# Altium footprint library DB.PcbLib: 16 footprints
Each footprint in its own frame and in the unit in brackets; x right, y up, seen from the top. Pads: shape width x height; smd on the part's side, far side on the other; paste and mask are expansions set on the pad; w line width, h text height; cw(c..) or ccw(c..) is an arc to the next point about the centre after c.
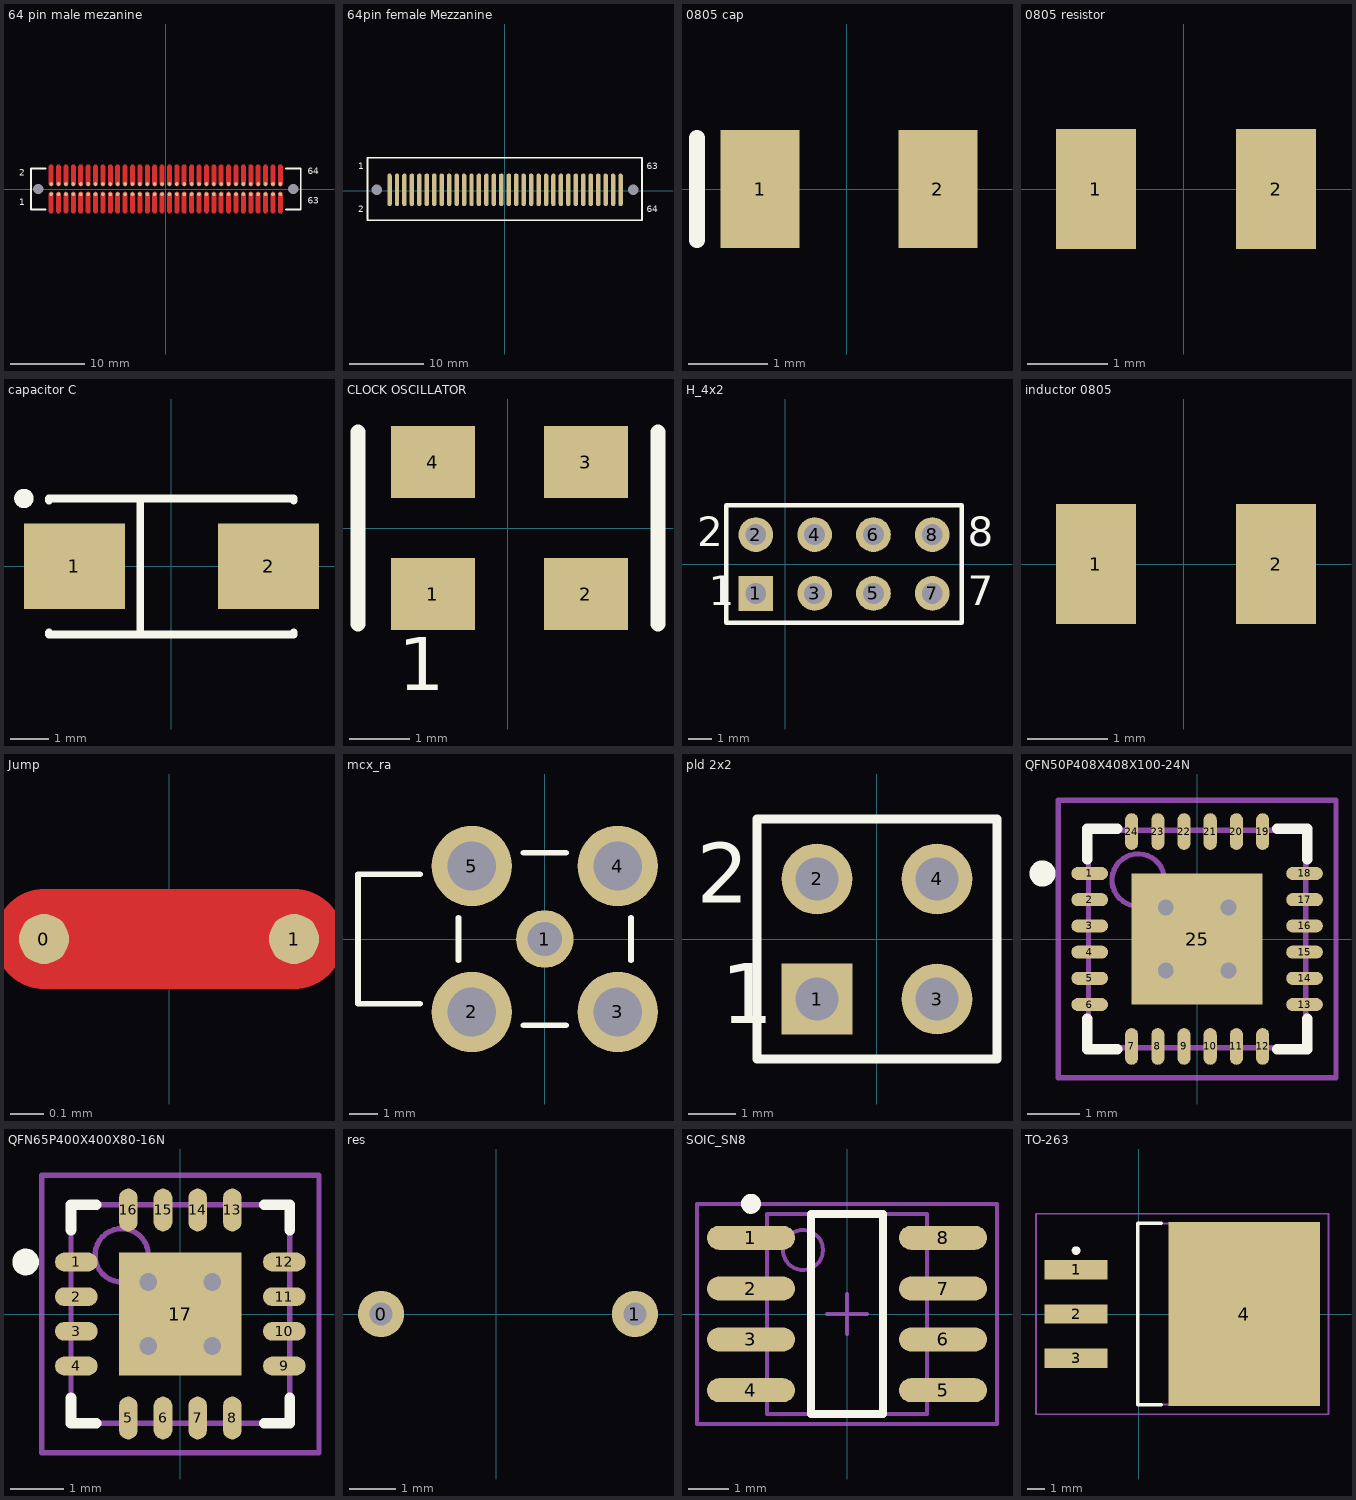
[diagram p0: the footprints below, top view; thin cyan lines are the x and y axes]

## 64 pin male mezanine [mm]
pads (66):
  round 0.5 smd: 1(-15.501,-0.7) 2(-15.501,0.679) 3(-14.5,-0.7) 4(-14.5,0.679) 5(-13.502,-0.7) 6(-13.502,0.679) 7(-12.501,-0.7) 8(-12.501,0.679) 9(-11.5,-0.7) 10(-11.5,0.679) 11(-10.502,-0.7) 12(-10.502,0.679) 13(-9.501,-0.7) 14(-9.501,0.679) 15(-8.501,-0.7) 16(-8.501,0.679) 17(-7.502,-0.7) 18(-7.502,0.679) 19(-6.502,-0.7) 20(-6.502,0.679) 21(-5.501,-0.7) 22(-5.501,0.679) 23(-4.5,-0.7) 24(-4.5,0.679) 25(-3.502,-0.7) 26(-3.502,0.679) 27(-2.501,-0.7) 28(-2.501,0.679) 29(-1.5,-0.7) 30(-1.5,0.679) 31(-0.502,-0.7) 32(-0.502,0.679) 33(0.499,-0.7) 34(0.499,0.679) 35(1.499,-0.7) 36(1.499,0.679) 37(2.498,-0.7) 38(2.498,0.679) 39(3.498,-0.7) 40(3.498,0.679) 41(4.499,-0.7) 42(4.499,0.679) 43(5.5,-0.7) 44(5.5,0.679) 45(6.498,-0.7) 46(6.498,0.679) 47(7.499,-0.7) 48(7.499,0.679) 49(8.5,-0.7) 50(8.5,0.679) 51(9.498,-0.7) 52(9.498,0.679) 53(10.499,-0.7) 54(10.499,0.679) 55(11.499,-0.7) 56(11.499,0.679) 57(12.498,-0.7) 58(12.498,0.679) 59(13.498,-0.7) 60(13.498,0.679) 61(14.499,-0.7) 62(14.499,0.679) 63(15.5,-0.7) 64(15.5,0.679)
  round 0 hole 1.4: 65(-17.25,0) 66(17.25,0)
Top Layer:
  region: -15.808,0.682 -15.808,0.622 -15.761,0.51 -15.675,0.424 -15.563,0.377 -15.442,0.377 -15.33,0.424 -15.244,0.51 -15.197,0.622 -15.197,0.682 -15.197,2.994 -15.197,3.054 -15.244,3.167 -15.33,3.253 -15.442,3.299 -15.563,3.299 -15.675,3.253 -15.761,3.167 -15.808,3.054 -15.808,2.994
  region: -14.807,0.682 -14.807,2.994 -14.807,3.054 -14.76,3.167 -14.675,3.253 -14.562,3.299 -14.441,3.299 -14.329,3.253 -14.243,3.167 -14.197,3.054 -14.197,2.994 -14.197,0.682 -14.197,0.622 -14.243,0.51 -14.329,0.424 -14.441,0.377 -14.562,0.377 -14.675,0.424 -14.76,0.51 -14.807,0.622
  region: -13.809,0.682 -13.809,0.622 -13.762,0.51 -13.676,0.424 -13.564,0.377 -13.443,0.377 -13.331,0.424 -13.245,0.51 -13.198,0.622 -13.198,0.682 -13.198,2.994 -13.198,3.054 -13.245,3.167 -13.331,3.253 -13.443,3.299 -13.564,3.299 -13.676,3.253 -13.762,3.167 -13.809,3.054 -13.809,2.994
  region: -12.808,0.682 -12.808,0.622 -12.761,0.51 -12.676,0.424 -12.563,0.377 -12.442,0.377 -12.33,0.424 -12.244,0.51 -12.198,0.622 -12.198,0.682 -12.198,2.994 -12.198,3.054 -12.244,3.167 -12.33,3.253 -12.442,3.299 -12.563,3.299 -12.676,3.253 -12.761,3.167 -12.808,3.054 -12.808,2.994
  region: -11.807,0.682 -11.807,0.622 -11.761,0.51 -11.675,0.424 -11.563,0.377 -11.441,0.377 -11.329,0.424 -11.243,0.51 -11.197,0.622 -11.197,0.682 -11.197,2.994 -11.197,3.054 -11.243,3.167 -11.329,3.253 -11.441,3.299 -11.563,3.299 -11.675,3.253 -11.761,3.167 -11.807,3.054 -11.807,2.994
  region: -10.809,0.682 -10.809,0.622 -10.763,0.51 -10.677,0.424 -10.564,0.377 -10.443,0.377 -10.331,0.424 -10.245,0.51 -10.199,0.622 -10.199,0.682 -10.199,2.994 -10.199,3.054 -10.245,3.167 -10.331,3.253 -10.443,3.299 -10.564,3.299 -10.677,3.253 -10.763,3.167 -10.809,3.054 -10.809,2.994
  region: -9.808,0.682 -9.808,0.622 -9.762,0.51 -9.676,0.424 -9.564,0.377 -9.442,0.377 -9.33,0.424 -9.244,0.51 -9.198,0.622 -9.198,0.682 -9.198,2.994 -9.198,3.054 -9.244,3.167 -9.33,3.253 -9.442,3.299 -9.564,3.299 -9.676,3.253 -9.762,3.167 -9.808,3.054 -9.808,2.994
  region: -8.807,0.682 -8.807,0.622 -8.761,0.51 -8.675,0.424 -8.563,0.377 -8.442,0.377 -8.329,0.424 -8.244,0.51 -8.197,0.622 -8.197,0.682 -8.197,2.994 -8.197,3.054 -8.244,3.167 -8.329,3.253 -8.442,3.299 -8.563,3.299 -8.675,3.253 -8.761,3.167 -8.807,3.054 -8.807,2.994
  region: -7.809,0.682 -7.809,0.622 -7.763,0.51 -7.677,0.424 -7.565,0.377 -7.443,0.377 -7.331,0.424 -7.245,0.51 -7.199,0.622 -7.199,0.682 -7.199,2.994 -7.199,3.054 -7.245,3.167 -7.331,3.253 -7.443,3.299 -7.565,3.299 -7.677,3.253 -7.763,3.167 -7.809,3.054 -7.809,2.994
  region: -6.808,0.682 -6.808,0.622 -6.762,0.51 -6.676,0.424 -6.564,0.377 -6.443,0.377 -6.33,0.424 -6.245,0.51 -6.198,0.622 -6.198,0.682 -6.198,2.994 -6.198,3.054 -6.245,3.167 -6.33,3.253 -6.443,3.299 -6.564,3.299 -6.676,3.253 -6.762,3.167 -6.808,3.054 -6.808,2.994
  region: -5.808,0.682 -5.808,0.622 -5.761,0.51 -5.675,0.424 -5.563,0.377 -5.442,0.377 -5.33,0.424 -5.244,0.51 -5.197,0.622 -5.197,0.682 -5.197,2.994 -5.197,3.054 -5.244,3.167 -5.33,3.253 -5.442,3.299 -5.563,3.299 -5.675,3.253 -5.761,3.167 -5.808,3.054 -5.808,2.994
  region: 5.193,0.682 5.193,0.622 5.239,0.51 5.325,0.424 5.438,0.377 5.559,0.377 5.671,0.424 5.757,0.51 5.803,0.622 5.803,0.682 5.803,2.994 5.803,3.054 5.757,3.167 5.671,3.253 5.559,3.299 5.438,3.299 5.325,3.253 5.239,3.167 5.193,3.054 5.193,2.994
  region: 4.192,0.682 4.192,0.622 4.239,0.51 4.325,0.424 4.437,0.377 4.558,0.377 4.67,0.424 4.756,0.51 4.803,0.622 4.803,0.682 4.803,2.994 4.803,3.054 4.756,3.167 4.67,3.253 4.558,3.299 4.437,3.299 4.325,3.253 4.239,3.167 4.192,3.054 4.192,2.994
  region: 3.192,0.682 3.192,0.622 3.238,0.51 3.324,0.424 3.436,0.377 3.557,0.377 3.67,0.424 3.755,0.51 3.802,0.622 3.802,0.682 3.802,2.994 3.802,3.054 3.755,3.167 3.67,3.253 3.557,3.299 3.436,3.299 3.324,3.253 3.238,3.167 3.192,3.054 3.192,2.994
  region: 2.193,0.682 2.193,0.622 2.24,0.51 2.326,0.424 2.438,0.377 2.559,0.377 2.671,0.424 2.757,0.51 2.804,0.622 2.804,0.682 2.804,2.994 2.804,3.054 2.757,3.167 2.671,3.253 2.559,3.299 2.438,3.299 2.326,3.253 2.24,3.167 2.193,3.054 2.193,2.994
  region: 1.193,0.682 1.193,0.622 1.239,0.51 1.325,0.424 1.437,0.377 1.558,0.377 1.671,0.424 1.756,0.51 1.803,0.622 1.803,0.682 1.803,2.994 1.803,3.054 1.756,3.167 1.671,3.253 1.558,3.299 1.437,3.299 1.325,3.253 1.239,3.167 1.193,3.054 1.193,2.994
  region: 0.192,0.682 0.192,0.622 0.238,0.51 0.324,0.424 0.436,0.377 0.558,0.377 0.67,0.424 0.756,0.51 0.802,0.622 0.802,0.682 0.802,2.994 0.802,3.054 0.756,3.167 0.67,3.253 0.558,3.299 0.436,3.299 0.324,3.253 0.238,3.167 0.192,3.054 0.192,2.994
  region: -0.806,0.682 -0.806,0.622 -0.76,0.51 -0.674,0.424 -0.562,0.377 -0.441,0.377 -0.328,0.424 -0.243,0.51 -0.196,0.622 -0.196,0.682 -0.196,2.994 -0.196,3.054 -0.243,3.167 -0.328,3.253 -0.441,3.299 -0.562,3.299 -0.674,3.253 -0.76,3.167 -0.806,3.054 -0.806,2.994
  region: -1.807,0.682 -1.807,0.622 -1.761,0.51 -1.675,0.424 -1.563,0.377 -1.441,0.377 -1.329,0.424 -1.243,0.51 -1.197,0.622 -1.197,0.682 -1.197,2.994 -1.197,3.054 -1.243,3.167 -1.329,3.253 -1.441,3.299 -1.563,3.299 -1.675,3.253 -1.761,3.167 -1.807,3.054 -1.807,2.994
  region: -2.808,0.682 -2.808,0.622 -2.762,0.51 -2.676,0.424 -2.563,0.377 -2.442,0.377 -2.33,0.424 -2.244,0.51 -2.198,0.622 -2.198,0.682 -2.198,2.994 -2.198,3.054 -2.244,3.167 -2.33,3.253 -2.442,3.299 -2.563,3.299 -2.676,3.253 -2.762,3.167 -2.808,3.054 -2.808,2.994
  region: -3.806,0.682 -3.806,2.994 -3.806,3.054 -3.76,3.167 -3.674,3.253 -3.562,3.299 -3.44,3.299 -3.328,3.253 -3.242,3.167 -3.196,3.054 -3.196,2.994 -3.196,0.682 -3.196,0.622 -3.242,0.51 -3.328,0.424 -3.44,0.377 -3.562,0.377 -3.674,0.424 -3.76,0.51 -3.806,0.622
  region: -4.807,0.682 -4.807,0.622 -4.76,0.51 -4.675,0.424 -4.562,0.377 -4.441,0.377 -4.329,0.424 -4.243,0.51 -4.197,0.622 -4.197,0.682 -4.197,2.994 -4.197,3.054 -4.243,3.167 -4.329,3.253 -4.441,3.299 -4.562,3.299 -4.675,3.253 -4.76,3.167 -4.807,3.054 -4.807,2.994
  region: 15.19,0.682 15.19,0.622 15.237,0.51 15.323,0.424 15.435,0.377 15.556,0.377 15.669,0.424 15.754,0.51 15.801,0.622 15.801,0.682 15.801,2.994 15.801,3.054 15.754,3.167 15.669,3.253 15.556,3.299 15.435,3.299 15.323,3.253 15.237,3.167 15.19,3.054 15.19,2.994
  region: 14.19,0.682 14.19,0.622 14.236,0.51 14.322,0.424 14.434,0.377 14.556,0.377 14.668,0.424 14.754,0.51 14.8,0.622 14.8,0.682 14.8,2.994 14.8,3.054 14.754,3.167 14.668,3.253 14.556,3.299 14.434,3.299 14.322,3.253 14.236,3.167 14.19,3.054 14.19,2.994
  region: 13.191,0.682 13.191,0.622 13.238,0.51 13.324,0.424 13.436,0.377 13.557,0.377 13.67,0.424 13.755,0.51 13.802,0.622 13.802,0.682 13.802,2.994 13.802,3.054 13.755,3.167 13.67,3.253 13.557,3.299 13.436,3.299 13.324,3.253 13.238,3.167 13.191,3.054 13.191,2.994
  region: 12.191,0.682 12.191,0.622 12.237,0.51 12.323,0.424 12.435,0.377 12.557,0.377 12.669,0.424 12.755,0.51 12.801,0.622 12.801,0.682 12.801,2.994 12.801,3.054 12.755,3.167 12.669,3.253 12.557,3.299 12.435,3.299 12.323,3.253 12.237,3.167 12.191,3.054 12.191,2.994
  region: 11.19,0.682 11.19,0.622 11.236,0.51 11.322,0.424 11.434,0.377 11.556,0.377 11.668,0.424 11.754,0.51 11.8,0.622 11.8,0.682 11.8,2.994 11.8,3.054 11.754,3.167 11.668,3.253 11.556,3.299 11.434,3.299 11.322,3.253 11.236,3.167 11.19,3.054 11.19,2.994
  region: 10.192,0.682 10.192,0.622 10.238,0.51 10.324,0.424 10.436,0.377 10.558,0.377 10.67,0.424 10.756,0.51 10.802,0.622 10.802,0.682 10.802,2.994 10.802,3.054 10.756,3.167 10.67,3.253 10.558,3.299 10.436,3.299 10.324,3.253 10.238,3.167 10.192,3.054 10.192,2.994
  region: 9.191,0.682 9.191,0.622 9.237,0.51 9.323,0.424 9.435,0.377 9.557,0.377 9.669,0.424 9.755,0.51 9.801,0.622 9.801,0.682 9.801,2.994 9.801,3.054 9.755,3.167 9.669,3.253 9.557,3.299 9.435,3.299 9.323,3.253 9.237,3.167 9.191,3.054 9.191,2.994
  region: 8.19,0.682 8.19,0.622 8.237,0.51 8.323,0.424 8.435,0.377 8.556,0.377 8.668,0.424 8.754,0.51 8.801,0.622 8.801,0.682 8.801,2.994 8.801,3.054 8.754,3.167 8.668,3.253 8.556,3.299 8.435,3.299 8.323,3.253 8.237,3.167 8.19,3.054 8.19,2.994
  region: 7.192,0.682 7.192,2.994 7.192,3.054 7.238,3.167 7.324,3.253 7.436,3.299 7.558,3.299 7.67,3.253 7.756,3.167 7.802,3.054 7.802,2.994 7.802,0.682 7.802,0.622 7.756,0.51 7.67,0.424 7.558,0.377 7.436,0.377 7.324,0.424 7.238,0.51 7.192,0.622
  region: 6.191,0.682 6.191,0.622 6.238,0.51 6.324,0.424 6.436,0.377 6.557,0.377 6.669,0.424 6.755,0.51 6.802,0.622 6.802,0.682 6.802,2.994 6.802,3.054 6.755,3.167 6.669,3.253 6.557,3.299 6.436,3.299 6.324,3.253 6.238,3.167 6.191,3.054 6.191,2.994
  region: -15.808,-0.682 -15.808,-0.622 -15.761,-0.51 -15.675,-0.424 -15.563,-0.377 -15.442,-0.377 -15.33,-0.424 -15.244,-0.51 -15.197,-0.622 -15.197,-0.682 -15.197,-2.994 -15.197,-3.054 -15.244,-3.167 -15.33,-3.253 -15.442,-3.299 -15.563,-3.299 -15.675,-3.253 -15.761,-3.167 -15.808,-3.054 -15.808,-2.994
  region: -14.807,-0.682 -14.807,-2.994 -14.807,-3.054 -14.76,-3.167 -14.675,-3.253 -14.562,-3.299 -14.441,-3.299 -14.329,-3.253 -14.243,-3.167 -14.197,-3.054 -14.197,-2.994 -14.197,-0.682 -14.197,-0.622 -14.243,-0.51 -14.329,-0.424 -14.441,-0.377 -14.562,-0.377 -14.675,-0.424 -14.76,-0.51 -14.807,-0.622
  region: -13.809,-0.682 -13.809,-0.622 -13.762,-0.51 -13.676,-0.424 -13.564,-0.377 -13.443,-0.377 -13.331,-0.424 -13.245,-0.51 -13.198,-0.622 -13.198,-0.682 -13.198,-2.994 -13.198,-3.054 -13.245,-3.167 -13.331,-3.253 -13.443,-3.299 -13.564,-3.299 -13.676,-3.253 -13.762,-3.167 -13.809,-3.054 -13.809,-2.994
  region: -12.808,-0.682 -12.808,-0.622 -12.761,-0.51 -12.676,-0.424 -12.563,-0.377 -12.442,-0.377 -12.33,-0.424 -12.244,-0.51 -12.198,-0.622 -12.198,-0.682 -12.198,-2.994 -12.198,-3.054 -12.244,-3.167 -12.33,-3.253 -12.442,-3.299 -12.563,-3.299 -12.676,-3.253 -12.761,-3.167 -12.808,-3.054 -12.808,-2.994
  region: -11.807,-0.682 -11.807,-0.622 -11.761,-0.51 -11.675,-0.424 -11.563,-0.377 -11.441,-0.377 -11.329,-0.424 -11.243,-0.51 -11.197,-0.622 -11.197,-0.682 -11.197,-2.994 -11.197,-3.054 -11.243,-3.167 -11.329,-3.253 -11.441,-3.299 -11.563,-3.299 -11.675,-3.253 -11.761,-3.167 -11.807,-3.054 -11.807,-2.994
  region: -10.809,-0.682 -10.809,-0.622 -10.763,-0.51 -10.677,-0.424 -10.564,-0.377 -10.443,-0.377 -10.331,-0.424 -10.245,-0.51 -10.199,-0.622 -10.199,-0.682 -10.199,-2.994 -10.199,-3.054 -10.245,-3.167 -10.331,-3.253 -10.443,-3.299 -10.564,-3.299 -10.677,-3.253 -10.763,-3.167 -10.809,-3.054 -10.809,-2.994
  region: -9.808,-0.682 -9.808,-0.622 -9.762,-0.51 -9.676,-0.424 -9.564,-0.377 -9.442,-0.377 -9.33,-0.424 -9.244,-0.51 -9.198,-0.622 -9.198,-0.682 -9.198,-2.994 -9.198,-3.054 -9.244,-3.167 -9.33,-3.253 -9.442,-3.299 -9.564,-3.299 -9.676,-3.253 -9.762,-3.167 -9.808,-3.054 -9.808,-2.994
  region: -8.807,-0.682 -8.807,-0.622 -8.761,-0.51 -8.675,-0.424 -8.563,-0.377 -8.442,-0.377 -8.329,-0.424 -8.244,-0.51 -8.197,-0.622 -8.197,-0.682 -8.197,-2.994 -8.197,-3.054 -8.244,-3.167 -8.329,-3.253 -8.442,-3.299 -8.563,-3.299 -8.675,-3.253 -8.761,-3.167 -8.807,-3.054 -8.807,-2.994
  region: -7.809,-0.682 -7.809,-0.622 -7.763,-0.51 -7.677,-0.424 -7.565,-0.377 -7.443,-0.377 -7.331,-0.424 -7.245,-0.51 -7.199,-0.622 -7.199,-0.682 -7.199,-2.994 -7.199,-3.054 -7.245,-3.167 -7.331,-3.253 -7.443,-3.299 -7.565,-3.299 -7.677,-3.253 -7.763,-3.167 -7.809,-3.054 -7.809,-2.994
  region: -6.808,-0.682 -6.808,-0.622 -6.762,-0.51 -6.676,-0.424 -6.564,-0.377 -6.443,-0.377 -6.33,-0.424 -6.245,-0.51 -6.198,-0.622 -6.198,-0.682 -6.198,-2.994 -6.198,-3.054 -6.245,-3.167 -6.33,-3.253 -6.443,-3.299 -6.564,-3.299 -6.676,-3.253 -6.762,-3.167 -6.808,-3.054 -6.808,-2.994
  region: -5.808,-0.682 -5.808,-0.622 -5.761,-0.51 -5.675,-0.424 -5.563,-0.377 -5.442,-0.377 -5.33,-0.424 -5.244,-0.51 -5.197,-0.622 -5.197,-0.682 -5.197,-2.994 -5.197,-3.054 -5.244,-3.167 -5.33,-3.253 -5.442,-3.299 -5.563,-3.299 -5.675,-3.253 -5.761,-3.167 -5.808,-3.054 -5.808,-2.994
  region: 5.193,-0.682 5.193,-0.622 5.239,-0.51 5.325,-0.424 5.438,-0.377 5.559,-0.377 5.671,-0.424 5.757,-0.51 5.803,-0.622 5.803,-0.682 5.803,-2.994 5.803,-3.054 5.757,-3.167 5.671,-3.253 5.559,-3.299 5.438,-3.299 5.325,-3.253 5.239,-3.167 5.193,-3.054 5.193,-2.994
  region: 4.192,-0.682 4.192,-0.622 4.239,-0.51 4.325,-0.424 4.437,-0.377 4.558,-0.377 4.67,-0.424 4.756,-0.51 4.803,-0.622 4.803,-0.682 4.803,-2.994 4.803,-3.054 4.756,-3.167 4.67,-3.253 4.558,-3.299 4.437,-3.299 4.325,-3.253 4.239,-3.167 4.192,-3.054 4.192,-2.994
  region: 3.192,-0.682 3.192,-0.622 3.238,-0.51 3.324,-0.424 3.436,-0.377 3.557,-0.377 3.67,-0.424 3.755,-0.51 3.802,-0.622 3.802,-0.682 3.802,-2.994 3.802,-3.054 3.755,-3.167 3.67,-3.253 3.557,-3.299 3.436,-3.299 3.324,-3.253 3.238,-3.167 3.192,-3.054 3.192,-2.994
  region: 2.193,-0.682 2.193,-0.622 2.24,-0.51 2.326,-0.424 2.438,-0.377 2.559,-0.377 2.671,-0.424 2.757,-0.51 2.804,-0.622 2.804,-0.682 2.804,-2.994 2.804,-3.054 2.757,-3.167 2.671,-3.253 2.559,-3.299 2.438,-3.299 2.326,-3.253 2.24,-3.167 2.193,-3.054 2.193,-2.994
  region: 1.193,-0.682 1.193,-0.622 1.239,-0.51 1.325,-0.424 1.437,-0.377 1.558,-0.377 1.671,-0.424 1.756,-0.51 1.803,-0.622 1.803,-0.682 1.803,-2.994 1.803,-3.054 1.756,-3.167 1.671,-3.253 1.558,-3.299 1.437,-3.299 1.325,-3.253 1.239,-3.167 1.193,-3.054 1.193,-2.994
  region: 0.192,-0.682 0.192,-0.622 0.238,-0.51 0.324,-0.424 0.436,-0.377 0.558,-0.377 0.67,-0.424 0.756,-0.51 0.802,-0.622 0.802,-0.682 0.802,-2.994 0.802,-3.054 0.756,-3.167 0.67,-3.253 0.558,-3.299 0.436,-3.299 0.324,-3.253 0.238,-3.167 0.192,-3.054 0.192,-2.994
  region: -0.806,-0.682 -0.806,-0.622 -0.76,-0.51 -0.674,-0.424 -0.562,-0.377 -0.441,-0.377 -0.328,-0.424 -0.243,-0.51 -0.196,-0.622 -0.196,-0.682 -0.196,-2.994 -0.196,-3.054 -0.243,-3.167 -0.328,-3.253 -0.441,-3.299 -0.562,-3.299 -0.674,-3.253 -0.76,-3.167 -0.806,-3.054 -0.806,-2.994
  region: -1.807,-0.682 -1.807,-0.622 -1.761,-0.51 -1.675,-0.424 -1.563,-0.377 -1.441,-0.377 -1.329,-0.424 -1.243,-0.51 -1.197,-0.622 -1.197,-0.682 -1.197,-2.994 -1.197,-3.054 -1.243,-3.167 -1.329,-3.253 -1.441,-3.299 -1.563,-3.299 -1.675,-3.253 -1.761,-3.167 -1.807,-3.054 -1.807,-2.994
  region: -2.808,-0.682 -2.808,-0.622 -2.762,-0.51 -2.676,-0.424 -2.563,-0.377 -2.442,-0.377 -2.33,-0.424 -2.244,-0.51 -2.198,-0.622 -2.198,-0.682 -2.198,-2.994 -2.198,-3.054 -2.244,-3.167 -2.33,-3.253 -2.442,-3.299 -2.563,-3.299 -2.676,-3.253 -2.762,-3.167 -2.808,-3.054 -2.808,-2.994
  region: -3.806,-0.682 -3.806,-2.994 -3.806,-3.054 -3.76,-3.167 -3.674,-3.253 -3.562,-3.299 -3.44,-3.299 -3.328,-3.253 -3.242,-3.167 -3.196,-3.054 -3.196,-2.994 -3.196,-0.682 -3.196,-0.622 -3.242,-0.51 -3.328,-0.424 -3.44,-0.377 -3.562,-0.377 -3.674,-0.424 -3.76,-0.51 -3.806,-0.622
  region: -4.807,-0.682 -4.807,-0.622 -4.76,-0.51 -4.675,-0.424 -4.562,-0.377 -4.441,-0.377 -4.329,-0.424 -4.243,-0.51 -4.197,-0.622 -4.197,-0.682 -4.197,-2.994 -4.197,-3.054 -4.243,-3.167 -4.329,-3.253 -4.441,-3.299 -4.562,-3.299 -4.675,-3.253 -4.76,-3.167 -4.807,-3.054 -4.807,-2.994
  region: 15.19,-0.682 15.19,-0.622 15.237,-0.51 15.323,-0.424 15.435,-0.377 15.556,-0.377 15.669,-0.424 15.754,-0.51 15.801,-0.622 15.801,-0.682 15.801,-2.994 15.801,-3.054 15.754,-3.167 15.669,-3.253 15.556,-3.299 15.435,-3.299 15.323,-3.253 15.237,-3.167 15.19,-3.054 15.19,-2.994
  region: 14.19,-0.682 14.19,-0.622 14.236,-0.51 14.322,-0.424 14.434,-0.377 14.556,-0.377 14.668,-0.424 14.754,-0.51 14.8,-0.622 14.8,-0.682 14.8,-2.994 14.8,-3.054 14.754,-3.167 14.668,-3.253 14.556,-3.299 14.434,-3.299 14.322,-3.253 14.236,-3.167 14.19,-3.054 14.19,-2.994
  region: 13.191,-0.682 13.191,-0.622 13.238,-0.51 13.324,-0.424 13.436,-0.377 13.557,-0.377 13.67,-0.424 13.755,-0.51 13.802,-0.622 13.802,-0.682 13.802,-2.994 13.802,-3.054 13.755,-3.167 13.67,-3.253 13.557,-3.299 13.436,-3.299 13.324,-3.253 13.238,-3.167 13.191,-3.054 13.191,-2.994
  region: 12.191,-0.682 12.191,-0.622 12.237,-0.51 12.323,-0.424 12.435,-0.377 12.557,-0.377 12.669,-0.424 12.755,-0.51 12.801,-0.622 12.801,-0.682 12.801,-2.994 12.801,-3.054 12.755,-3.167 12.669,-3.253 12.557,-3.299 12.435,-3.299 12.323,-3.253 12.237,-3.167 12.191,-3.054 12.191,-2.994
  region: 11.19,-0.682 11.19,-0.622 11.236,-0.51 11.322,-0.424 11.434,-0.377 11.556,-0.377 11.668,-0.424 11.754,-0.51 11.8,-0.622 11.8,-0.682 11.8,-2.994 11.8,-3.054 11.754,-3.167 11.668,-3.253 11.556,-3.299 11.434,-3.299 11.322,-3.253 11.236,-3.167 11.19,-3.054 11.19,-2.994
  region: 10.192,-0.682 10.192,-0.622 10.238,-0.51 10.324,-0.424 10.436,-0.377 10.558,-0.377 10.67,-0.424 10.756,-0.51 10.802,-0.622 10.802,-0.682 10.802,-2.994 10.802,-3.054 10.756,-3.167 10.67,-3.253 10.558,-3.299 10.436,-3.299 10.324,-3.253 10.238,-3.167 10.192,-3.054 10.192,-2.994
  region: 9.191,-0.682 9.191,-0.622 9.237,-0.51 9.323,-0.424 9.435,-0.377 9.557,-0.377 9.669,-0.424 9.755,-0.51 9.801,-0.622 9.801,-0.682 9.801,-2.994 9.801,-3.054 9.755,-3.167 9.669,-3.253 9.557,-3.299 9.435,-3.299 9.323,-3.253 9.237,-3.167 9.191,-3.054 9.191,-2.994
  region: 8.19,-0.682 8.19,-0.622 8.237,-0.51 8.323,-0.424 8.435,-0.377 8.556,-0.377 8.668,-0.424 8.754,-0.51 8.801,-0.622 8.801,-0.682 8.801,-2.994 8.801,-3.054 8.754,-3.167 8.668,-3.253 8.556,-3.299 8.435,-3.299 8.323,-3.253 8.237,-3.167 8.19,-3.054 8.19,-2.994
  region: 7.192,-0.682 7.192,-2.994 7.192,-3.054 7.238,-3.167 7.324,-3.253 7.436,-3.299 7.558,-3.299 7.67,-3.253 7.756,-3.167 7.802,-3.054 7.802,-2.994 7.802,-0.682 7.802,-0.622 7.756,-0.51 7.67,-0.424 7.558,-0.377 7.436,-0.377 7.324,-0.424 7.238,-0.51 7.192,-0.622
  region: 6.191,-0.682 6.191,-0.622 6.238,-0.51 6.324,-0.424 6.436,-0.377 6.557,-0.377 6.669,-0.424 6.755,-0.51 6.802,-0.622 6.802,-0.682 6.802,-2.994 6.802,-3.054 6.755,-3.167 6.669,-3.253 6.557,-3.299 6.436,-3.299 6.324,-3.253 6.238,-3.167 6.191,-3.054 6.191,-2.994
Top Overlay:
  lines w0.254: -16.25,-2.75 -18.25,-2.75 -18.25,2.75 -16.25,2.75 ; 16.25,-2.75 18.25,-2.75 18.25,2.75 16.25,2.75
  text "64" at 19.2,1.675 h1.52
  text "63" at 19.2,-2.325 h1.52
  text "2" at -19.85,1.45 h1.52
  text "1" at -19.85,-2.55 h1.52

## 64pin female Mezzanine [mm]
pads (66):
  round 0 hole 1.4: 0(-17.15,0.15) 0(17.225,0.15)
  oval 0.6x3 smd: 1(-15.45,0.825) 3(-14.452,0.832) 5(-13.454,0.832) 7(-12.453,0.832) 9(-11.452,0.832) 11(-10.454,0.832) 13(-9.453,0.832) 15(-8.452,0.832) 17(-7.454,0.832) 19(-6.453,0.832) 21(-5.453,0.832) 23(-4.452,0.832) 25(-3.454,0.832) 27(-2.453,0.832) 29(-1.452,0.832) 31(-0.454,0.832) 33(0.547,0.832) 35(1.548,0.832) 37(2.546,0.832) 39(3.547,0.832) 41(4.547,0.832) 43(5.548,0.832) 45(6.546,0.832) 47(7.547,0.832) 49(8.548,0.832) 51(9.546,0.832) 53(10.547,0.832) 55(11.548,0.832) 57(12.546,0.832) 59(13.547,0.832) 61(14.547,0.832) 63(15.548,0.832)
  oval 0.6x3 smd paste+0: 2(-15.453,-0.547) 4(-14.452,-0.547) 6(-13.454,-0.547) 8(-12.453,-0.547) 10(-11.452,-0.547) 12(-10.454,-0.547) 14(-9.453,-0.547) 16(-8.452,-0.547) 18(-7.454,-0.547) 20(-6.453,-0.547) 22(-5.453,-0.547) 24(-4.452,-0.547) 26(-3.454,-0.547) 28(-2.453,-0.547) 30(-1.452,-0.547) 32(-0.454,-0.547) 34(0.547,-0.547) 36(1.548,-0.547) 38(2.546,-0.547) 40(3.547,-0.547) 42(4.547,-0.547) 44(5.548,-0.547) 46(6.546,-0.547) 48(7.547,-0.547) 50(8.548,-0.547) 52(9.546,-0.547) 54(10.547,-0.547) 56(11.548,-0.547) 58(12.546,-0.547) 60(13.547,-0.547) 62(14.547,-0.547) 64(15.548,-0.547)
Top Overlay:
  lines w0.254: -18.415,-3.937 18.415,-3.937 18.415,4.445 -18.415,4.445 -18.415,-3.937
  text "63" at 19.05,2.54 h1.52
  text "64" at 19.05,-3.175 h1.52
  text "1" at -19.685,2.54 h1.52
  text "2" at -19.685,-3.175 h1.52
3D body "714390164.stp": height 5.31, standoff -0.79, extent -17.899,-2.872 18.001,3.228

## 0805 cap [mm]
pads (2):
  rect 1x1.5 smd: 1(-1.1,0) 2(1.15,0)
Top Overlay:
  lines w0.2: -1.9,-0.65 -1.9,0.65
3D body "User_Library-0805_SMD_Capacitor.step": height 0.78, standoff 0, extent -1.025,-0.65 0.975,0.6

## 0805 resistor [mm]
pads (2):
  rect 1x1.5 smd: 1(-1.1,0) 2(1.15,0)
3D body "User_Library-0805_SMD_Resistor.step": height 0.78, standoff 0, extent -0.975,-0.625 1.025,0.625

## capacitor C [mm]
pads (2):
  rect 2.6x2.2 smd: 1(-2.5,0) 2(2.5,0)
Top Overlay:
  circle w0.25: c-3.8,1.75 r0.125
  lines w0.2: -3.15,-1.7 -3.15,-1.75 3.15,-1.75 3.15,-1.7 ; -3.15,1.7 -3.15,1.75 3.15,1.75 3.15,1.7 ; -0.8,-1.75 -0.8,1.75
3D body "User_Library-Tantalum_Size_C.step": height 2.6, standoff 0, extent -2.9,-1.55 2.9,1.65

## CLOCK OSCILLATOR [mm]
pads (4):
  rect 1.4x1.2 smd: 1(-1.25,-1.1) 2(1.3,-1.1) 3(1.3,1.1) 4(-1.25,1.1)
Top Overlay:
  lines w0.254: -2.5,-1.6 -2.5,1.6 ; 2.5,-1.6 2.5,1.6
  text "1" at -1.825,-3 h1.52
3D body "User_Library-ASFL1.step": height 1.33, standoff 0.01, extent -2.475,-1.575 2.525,1.625

## H_4x2 [mm]
pads (8):
  rect 1.5x1.5 hole 0.9: 1(-1.26,-1.27)
  round 1.5 hole 0.9: 2(-1.26,1.27) 3(1.28,-1.27) 4(1.28,1.27) 5(3.82,-1.27) 6(3.82,1.27) 7(6.36,-1.27) 8(6.36,1.27)
Top Overlay:
  lines w0.2: -2.53,-2.54 -2.53,2.54 7.63,2.54 7.63,-2.54 -2.53,-2.54
  text "8" at 7.884,0.762 h1.27
  text "7" at 7.884,-1.778 h1.27
  text "1" at -3.292,-1.778 h1.27
  text "2" at -3.8,0.762 h1.27
3D body "User_Library-PLD-8.step": height 8.5, standoff -3, extent -2.555,-2.45 7.605,2.55

## inductor 0805 [mm]
pads (2):
  rect 1x1.5 smd: 1(-1.1,0) 2(1.15,0)
3D body "User Library-Chip Inductor.step": height 1.3, standoff 0, extent -1,-0.625 1,0.575

## Jump [mm]
pads (2):
  round 0.15 smd: 0(-0.375,0) 1(0.375,0)
Top Layer:
  lines w0.3: -0.375,0 0.375,0

## mcx_ra [mm]
pads (5):
  round 2 hole 1.2: 1(0,0)
  round 2.8 hole 1.7: 2(-2.54,-2.54) 3(2.54,-2.54) 4(2.54,2.54) 5(-2.54,2.54)
Top Overlay:
  lines w0.2: -4.34,-2.25 -6.5,-2.25 -6.5,2.25 -4.34,2.25 ; -3,-0.74 -3,0.74 ; -0.74,-3 0.74,-3 ; -0.74,3 0.74,3 ; 3,-0.74 3,0.74
3D body "User_Library-919-119J-51AX.step": height 5.9, standoff -3.94, extent -6.425,-3.05 3.075,2.95

## pld 2x2 [mm]
pads (4):
  rect 1.5x1.5 hole 0.9: 1(-1.26,-1.27)
  round 1.5 hole 0.9: 2(-1.26,1.27) 3(1.28,-1.27) 4(1.28,1.27)
Top Overlay:
  lines w0.2: -2.53,-2.54 -2.53,2.54 2.55,2.54 2.55,-2.54 -2.53,-2.54
  text "1" at -3.292,-1.778 h1.27
  text "2" at -3.8,0.762 h1.27
3D body "User Library-PLD-4.step": height 8.5, standoff -3, extent -2.375,-2.55 2.625,2.53

## QFN50P408X408X100-24N [mm] "QFN, 24-Leads, Body 4,2x4,2mm (max), Pitch 0,50mm, IPC Medium Density"
height 1
pads (25):
  oval 0.7x0.25 smd: 1(-2.05,1.25) 2(-2.05,0.75) 3(-2.05,0.25) 4(-2.05,-0.25) 5(-2.05,-0.75) 6(-2.05,-1.25) 13(2.05,-1.25) 14(2.05,-0.75) 15(2.05,-0.25) 16(2.05,0.25) 17(2.05,0.75) 18(2.05,1.25)
  oval 0.25x0.7 smd: 7(-1.25,-2.05) 8(-0.75,-2.05) 9(-0.25,-2.05) 10(0.25,-2.05) 11(0.75,-2.05) 12(1.25,-2.05) 19(1.25,2.05) 20(0.75,2.05) 21(0.25,2.05) 22(-0.25,2.05) 23(-0.75,2.05) 24(-1.25,2.05)
  rect 2.5x2.5 smd: 25(0,0)
via 0.6,-0.6 diameter 0.6 hole 0.3
via -0.6,-0.6 diameter 0.6 hole 0.3
via 0.6,0.6 diameter 0.6 hole 0.3
via -0.6,0.6 diameter 0.6 hole 0.3
Top Overlay:
  circle w0.25: c-2.95,1.25 r0.125
  lines w0.2: -2.1,-1.525 -2.1,-2.1 -1.525,-2.1 ; -2.1,1.525 -2.1,2.1 -1.525,2.1 ; 1.525,-2.1 2.1,-2.1 2.1,-1.525 ; 1.525,2.1 2.1,2.1 2.1,1.525
Mechanical 13:
  circle w0.1: c-1.125,1.125 r0.5
  lines w0.1: -2.075,-2.075 2.075,-2.075 2.075,2.075 -2.075,2.075 -2.075,-2.075
Mechanical 15:
  lines w0.1: -0.5,0 0.5,0 ; 0,-0.5 0,0.5 ; -2.65,-2.65 2.65,-2.65 2.65,2.65 -2.65,2.65 -2.65,-2.65
3D body "User_Library-QFN24-0_5.step": height 1, standoff 0, extent -2,-2 2,2

## QFN65P400X400X80-16N [mm] "QFN, 16-Leads, Body 4,1x4,1mm (max), Pitch 0,65mm, IPC Medium Density"
height 0.8
pads (17):
  oval 0.8x0.35 smd: 1(-1.95,0.975) 2(-1.95,0.325) 3(-1.95,-0.325) 4(-1.95,-0.975) 9(1.95,-0.975) 10(1.95,-0.325) 11(1.95,0.325) 12(1.95,0.975)
  oval 0.35x0.8 smd: 5(-0.975,-1.95) 6(-0.325,-1.95) 7(0.325,-1.95) 8(0.975,-1.95) 13(0.975,1.95) 14(0.325,1.95) 15(-0.325,1.95) 16(-0.975,1.95)
  rect 2.3x2.3 smd: 17(0,0)
via -0.6,0.6 diameter 0.66 hole 0.33
via 0.6,0.6 diameter 0.66 hole 0.33
via -0.6,-0.6 diameter 0.66 hole 0.33
via 0.6,-0.6 diameter 0.66 hole 0.33
Top Overlay:
  circle w0.25: c-2.9,0.975 r0.125
  lines w0.2: -2.05,-1.575 -2.05,-2.05 -1.575,-2.05 ; -2.05,1.575 -2.05,2.05 -1.575,2.05 ; 1.575,-2.05 2.05,-2.05 2.05,-1.575 ; 1.575,2.05 2.05,2.05 2.05,1.575
Mechanical 13:
  circle w0.1: c-1.1,1.1 r0.5
  lines w0.1: -2.05,-2.05 -2.05,2.05 2.05,2.05 2.05,-2.05 -2.05,-2.05
Mechanical 15:
  lines w0.1: -0.5,0 0.5,0 ; 0,-0.5 0,0.5 ; -2.6,-2.6 -2.6,2.6 2.6,2.6 2.6,-2.6 -2.6,-2.6
3D body: height 0.8, standoff 0.02, extent -2.05,-2.05 2.05,2.05
3D body "User_Library-QFN16.step": height 0.85, standoff 0, extent -2,-2 2.002,2.002

## res [mm]
pads (2):
  round 1 hole 0.5: 0(-2.5,0) 1(3,0)

## SOIC_SN8 [mm]
pads (8):
  oval 2.2x0.6 smd: 1(-2.4,1.905) 2(-2.4,0.635) 3(-2.4,-0.635) 4(-2.4,-1.905) 5(2.4,-1.905) 6(2.4,-0.635) 7(2.4,0.635) 8(2.4,1.905)
Top Overlay:
  circle w0.25: c-2.4,2.755 r0.125
  lines w0.2: -0.9,-2.5 -0.9,2.5 0.9,2.5 0.9,-2.5 -0.9,-2.5
Mechanical 13:
  circle w0.1: c-1.1,1.6 r0.5
  lines w0.1: -2,-2.5 -2,2.5 2,2.5 2,-2.5 -2,-2.5
Mechanical 15:
  lines w0.1: -0.5,0 0.5,0 ; 0,-0.5 0,0.5 ; -3.75,-2.75 -3.75,2.75 3.75,2.75 3.75,-2.75 -3.75,-2.75
3D body "User_Library-SOIC-8-1.step": height 1.75, standoff 0, extent -3,-2.45 3,2.45

## TO-263 [mm]
pads (4):
  rect 3.6x1.1 smd: 1(-3.6,2.54) 2(-3.6,0) 3(-3.6,-2.54)
  rect 8.7x10.55 smd: 4(6.05,0)
Top Overlay:
  circle w0.25: c-3.6,3.64 r0.125
  lines w0.2: 1.3,-5.2 -0.05,-5.2 -0.05,5.2 1.3,5.2
Mechanical 13:
  lines w0.1: -0.05,-5.2 8.84,-5.2 8.84,5.2 -0.05,5.2 -0.05,-5.2
Mechanical 15:
  lines w0.1: 2,0 3,0 ; 2.5,-0.5 2.5,0.5 ; -5.9,-5.75 10.9,-5.75 10.9,5.75 -5.9,5.75 -5.9,-5.75
3D body: height 4.64, standoff 0, extent -0.049,-5.199 8.839,5.199
3D body "SW3dPS-TO263-3.step": height 4.86, standoff 0.06, extent -5.085,-5.025 10.585,4.975